# Altium schematic symbol library TRANS-EP-GSD.SCHLIB: 1 symbol
Pins are listed as number, name and electrical type; pins without a type are passive.

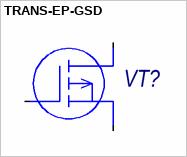
[diagram p0: symbol TRANS-EP-GSD]

## TRANS-EP-GSD
designator VT?
MOSFET
pins: 1 G, 2 S, 3 D